# Altium footprint library Crystal_Oscillators.PcbLib: 8 footprints
Each footprint in its own frame and in the unit in brackets; x right, y up, seen from the top. Pads: shape width x height; smd on the part's side, far side on the other; paste and mask are expansions set on the pad; w line width, h text height; cw(c..) or ccw(c..) is an arc to the next point about the centre after c.
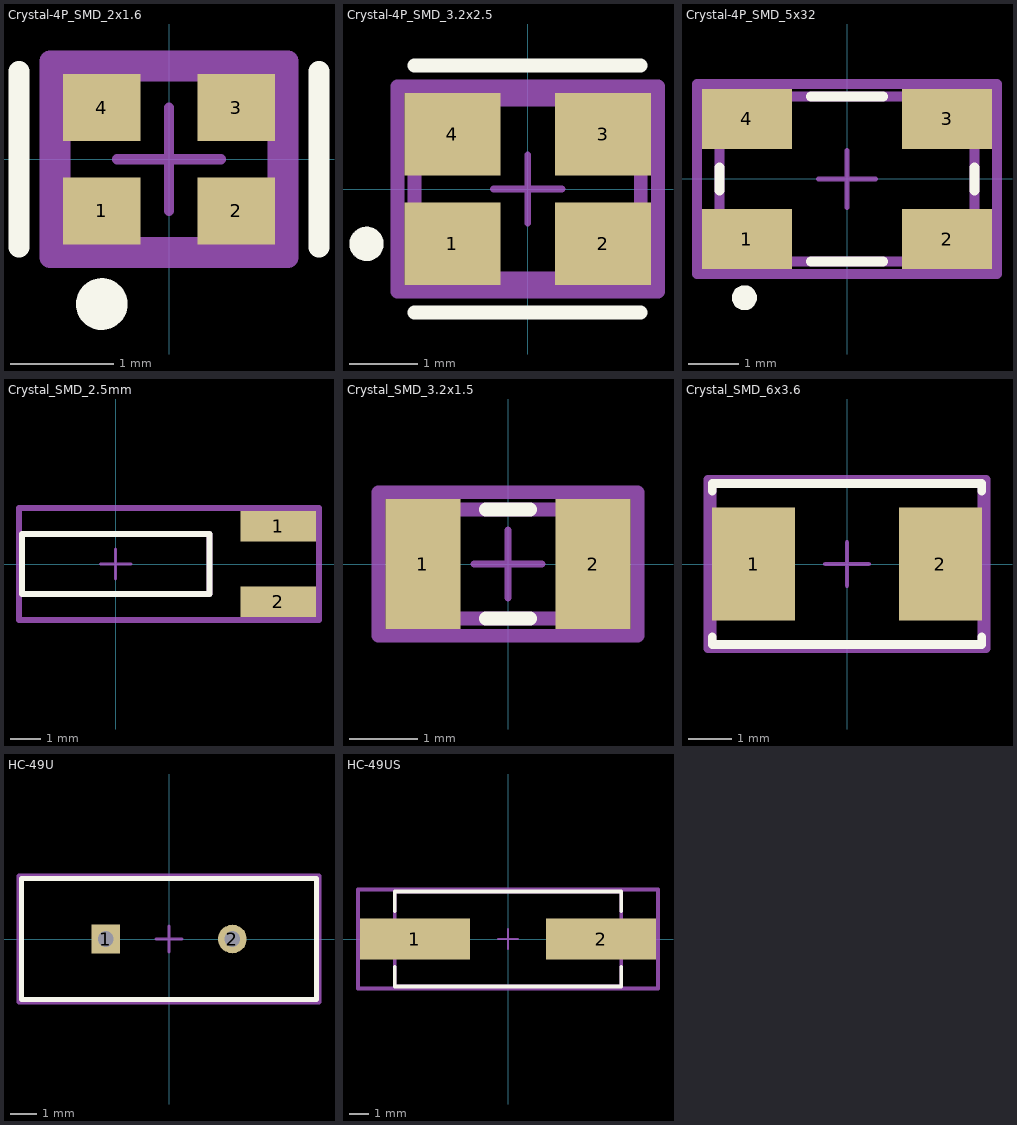
[diagram p0: the footprints below, top view; thin cyan lines are the x and y axes]

## Crystal-4P_SMD_2x1.6 [mm]
pads (4):
  rect 0.75x0.65 smd paste+0 mask+0: 1(-0.65,-0.5) 2(0.65,-0.5) 3(0.65,0.5) 4(-0.65,0.5)
Top Overlay:
  circle w0.25: c-0.65,-1.4 r0.125
  lines w0.2: -1.45,-0.85 -1.45,0.85 ; 1.45,-0.85 1.45,0.85
Top Assembly:
  lines w0.2: -1.15,-0.95 1.15,-0.95 1.15,0.95 -1.15,0.95 -1.15,-0.95
Top 3D Body:
  lines w0.2: -1.05,-0.85 1.05,-0.85 1.05,0.85 -1.05,0.85 -1.05,-0.85
Top Courtyard:
  lines w0.2: -1.15,-0.95 1.15,-0.95 1.15,0.95 -1.15,0.95 -1.15,-0.95
Top Component Center:
  lines w0.1: -0.5,0 0.5,0 ; 0,-0.5 0,0.5
3D body "Crys_Abracon_ASA-75_000MHZ-L-T3_eec.STEP": height 0.25, standoff 0, extent -1.15,-0.95 1.15,0.95

## Crystal-4P_SMD_3.2x2.5 [mm]
pads (4):
  rect 1.4x1.2 smd paste+0 mask+0: 1(-1.1,-0.8) 2(1.1,-0.8) 3(1.1,0.8) 4(-1.1,0.8)
Top Overlay:
  circle w0.25: c-2.35,-0.8 r0.125
  lines w0.2: -1.65,-1.8 1.65,-1.8 ; -1.65,1.8 1.65,1.8
Top Assembly:
  lines w0.2: -1.9,-1.5 -1.9,1.5 1.9,1.5 1.9,-1.5 -1.9,-1.5
Top 3D Body:
  lines w0.2: -1.65,-1.3 -1.65,1.3 1.65,1.3 1.65,-1.3 -1.65,-1.3
Top Courtyard:
  lines w0.2: -1.9,-1.5 -1.9,1.5 1.9,1.5 1.9,-1.5 -1.9,-1.5
Top Component Center:
  lines w0.1: -0.5,0 0.5,0 ; 0,-0.5 0,0.5
3D body "Crys_Abracon_ABM8AIG-20_000MHZ-12-2Z-T3_eec.STEP": height 0.25, standoff 0, extent -1.9,-1.5 1.9,1.5

## Crystal-4P_SMD_5x32 [mm]
pads (4):
  rect 1.8x1.2 smd paste+0 mask+0: 1(-2,-1.2) 2(2,-1.2) 3(2,1.2) 4(-2,1.2)
Top Overlay:
  circle w0.25: c-2.05,-2.375 r0.125
  lines w0.2: -2.55,-0.225 -2.55,0.225 ; -0.725,-1.65 0.725,-1.65 ; -0.725,1.65 0.725,1.65 ; 2.55,-0.225 2.55,0.225
Top Assembly:
  lines w0.2: -3,-1.9 3,-1.9 3,1.9 -3,1.9 -3,-1.9
Top 3D Body:
  lines w0.2: -2.55,-1.65 2.55,-1.65 2.55,1.65 -2.55,1.65 -2.55,-1.65
Top Courtyard:
  lines w0.2: -3,-1.9 3,-1.9 3,1.9 -3,1.9 -3,-1.9
Top Component Center:
  lines w0.1: -0.57,0 0.57,0 ; 0,-0.57 0,0.57
3D body "Crys_Abracon_ABM3B-12_000MHZ-10-B-1-U-T_eec.STEP": height 0.25, standoff 0, extent -3,-1.9 3,1.9

## Crystal_SMD_2.5mm [mm]
pads (2):
  rect 2.5x1 smd paste+0 mask+0: 1(5.375,1.25) 2(5.375,-1.25)
Top Overlay:
  lines w0.2: -3.1,-1 -3.1,1 3.1,1 3.1,-1 -3.1,-1
Top Assembly:
  lines w0.2: -3.2,-1.85 -3.2,1.85 6.725,1.85 6.725,-1.85 -3.2,-1.85
Top 3D Body:
  lines w0.2: -3.1,-1 -3.1,1 3.1,1 3.1,-1 -3.1,-1
Top Courtyard:
  lines w0.2: -3.2,-1.85 -3.2,1.85 6.725,1.85 6.725,-1.85 -3.2,-1.85
Top Component Center:
  lines w0.1: -0.5,0 0.5,0 ; 0,-0.5 0,0.5
3D body "Crys_Abracon_AB26TRB-32_768KHZ-T_eec.STEP": height 0.25, standoff 0, extent -3.2,-1.85 6.725,1.85

## Crystal_SMD_3.2x1.5 [mm]
pads (2):
  rect 1.1x1.9 smd paste+0 mask+0: 1(-1.25,0) 2(1.25,0)
Top Overlay:
  lines w0.2: -0.325,-0.8 0.325,-0.8 ; -0.325,0.8 0.325,0.8
Top Assembly:
  lines w0.2: -1.9,-1.05 -1.9,1.05 1.9,1.05 1.9,-1.05 -1.9,-1.05
Top 3D Body:
  lines w0.2: -1.65,-0.8 -1.65,0.8 1.65,0.8 1.65,-0.8 -1.65,-0.8
Top Courtyard:
  lines w0.2: -1.9,-1.05 -1.9,1.05 1.9,1.05 1.9,-1.05 -1.9,-1.05
Top Component Center:
  lines w0.1: -0.5,0 0.5,0 ; 0,-0.5 0,0.5
3D body "Crys_Abracon_ABS07-166-32_768KHZ-T_eec.STEP": height 0.25, standoff 0, extent -1.9,-1.05 1.9,1.05

## Crystal_SMD_6x3.6 [mm]
pads (2):
  rect 1.9x2.6 smd paste+0 mask+0: 1(-2.15,0) 2(2.15,0)
Top Overlay:
  lines w0.2: -3.1,-1.675 -3.1,-1.85 3.1,-1.85 3.1,-1.675 ; -3.1,1.675 -3.1,1.85 3.1,1.85 3.1,1.675
Top Assembly:
  lines w0.2: -3.2,-1.95 -3.2,1.95 3.2,1.95 3.2,-1.95 -3.2,-1.95
Top 3D Body:
  lines w0.2: -3.1,-1.85 -3.1,1.85 3.1,1.85 3.1,-1.85 -3.1,-1.85
Top Courtyard:
  lines w0.2: -3.2,-1.95 -3.2,1.95 3.2,1.95 3.2,-1.95 -3.2,-1.95
Top Component Center:
  lines w0.1: -0.5,0 0.5,0 ; 0,-0.5 0,0.5
3D body "Crys_Abracon_ABM7-16_000MHZ-D2Y-T_eec.STEP": height 0.25, standoff 0, extent -3.2,-1.95 3.2,1.95

## HC-49U [mm]
pads (2):
  rect 1.1x1.1 hole 0.6 paste-2539.97 mask+0: 1(-2.44,0)
  round 1.1 hole 0.6 paste-2539.97 mask+0: 2(2.44,0)
Top Overlay:
  lines w0.2: -5.675,-2.325 -5.675,2.325 5.675,2.325 5.675,-2.325 -5.675,-2.325
Top Assembly:
  lines w0.2: -5.775,-2.425 -5.775,2.425 5.775,2.425 5.775,-2.425 -5.775,-2.425
Top 3D Body:
  lines w0.2: -5.675,-2.325 -5.675,2.325 5.675,2.325 5.675,-2.325 -5.675,-2.325
Top Courtyard:
  lines w0.2: -5.775,-2.425 -5.775,2.425 5.775,2.425 5.775,-2.425 -5.775,-2.425
Top Component Center:
  lines w0.1: -0.5,0 0.5,0 ; 0,-0.5 0,0.5
3D body "Crys_ECS_ECS-80-20-4X_eec.STEP": height 0.25, standoff 0, extent -5.775,-2.425 5.775,2.425

## HC-49US [mm]
pads (2):
  rect 5.6x2.1 smd paste+0 mask+0: 1(-4.75,0) 2(4.75,0)
Top Overlay:
  lines w0.2: -5.775,-1.425 -5.775,-2.425 5.775,-2.425 5.775,-1.425 ; -5.775,1.425 -5.775,2.425 5.775,2.425 5.775,1.425
Top Assembly:
  lines w0.2: -7.65,-2.525 7.65,-2.525 7.65,2.525 -7.65,2.525 -7.65,-2.525
Top 3D Body:
  lines w0.2: -5.775,-2.425 5.775,-2.425 5.775,2.425 -5.775,2.425 -5.775,-2.425
Top Courtyard:
  lines w0.2: -7.65,-2.525 7.65,-2.525 7.65,2.525 -7.65,2.525 -7.65,-2.525
Top Component Center:
  lines w0.1: -0.5,0 0.5,0 ; 0,-0.5 0,0.5
3D body "Crys_Abracon_ABLS-16_000MHZ-K4T_eec.STEP": height 0.25, standoff 0, extent -7.65,-2.525 7.65,2.525